# Altium footprint library Project.PcbLib: 3 footprints
Each footprint in its own frame and in the unit in brackets; x right, y up, seen from the top. Pads: shape width x height; smd on the part's side, far side on the other; paste and mask are expansions set on the pad; w line width, h text height; cw(c..) or ccw(c..) is an arc to the next point about the centre after c.
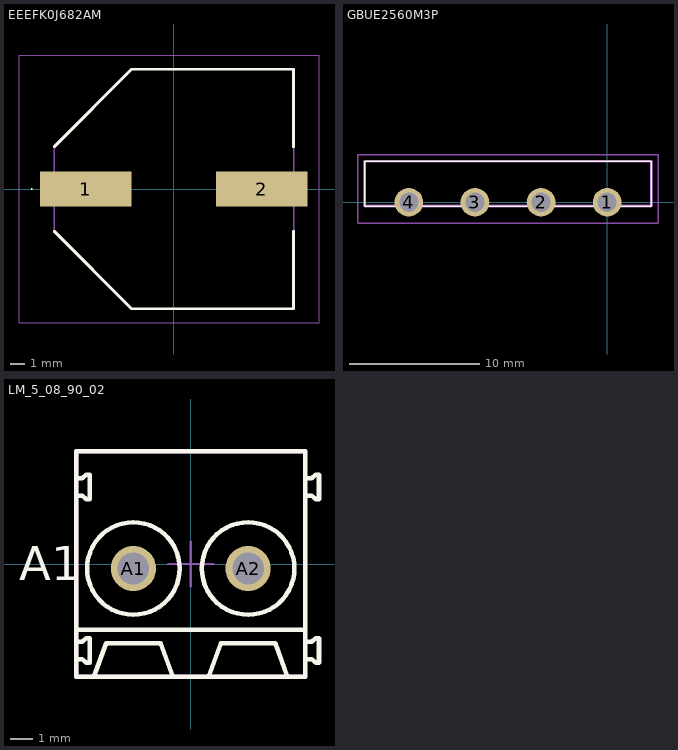
[diagram p0: the footprints below, top view; thin cyan lines are the x and y axes]

## EEEFK0J682AM [mm]
pads (2):
  rect 6.5x2.5 smd: 1(-6.25,0) 2(6.25,0)
Top Overlay:
  lines w0.05: -10.125,0 cw(c-10.1,0) -10.075,0 cw(c-10.1,0) -10.125,0
  lines w0.2: -8.5,-3 -3,-8.5 8.5,-8.5 8.5,-3 ; -8.5,3 -3,8.5 8.5,8.5 8.5,3
Mechanical 13:
  lines w0.1: -8.5,3 -3,8.5 ; -8.5,3 -8.5,-3 -3,-8.5 8.5,-8.5 8.5,8.5 -3,8.5 ; -8.5,3 -3,8.5
Mechanical 15:
  lines w0.05: -11,-9.5 -11,9.5 10.3,9.5 10.3,-9.5 -11,-9.5
3D body "EEE-TK1H471AM.stp": height 0, standoff 0, extent 0,0 0,0
3D body "exv107m050a9paa.stp": height 10.21, standoff -0.3, extent -5.338,-5.461 6.862,5.039

## GBUE2560M3P [mm]
pads (4):
  round 2.205 hole 1.47: 1(0,0) 2(-5.08,0) 3(-10.16,0) 4(-15.24,0)
Top Overlay:
  lines w0.1: -18.645,-0.292 3.405,-0.292 3.405,3.138 -18.645,3.138 -18.645,-0.292
Mechanical 13:
  lines w0.2: -18.645,-0.292 3.405,-0.292 3.405,3.138 -18.645,3.138 -18.645,-0.292
Mechanical 15:
  lines w0.1: -19.145,-1.603 3.905,-1.603 3.905,3.638 -19.145,3.638 -19.145,-1.603
3D body "GBUE2560-M3_P.stp": height 18.65, standoff -5, extent -18.645,-0.634 3.405,3.138

## LM_5_08_90_02 [mm] "OMNIMATE Signal - Serie LM  LM 5.08/02/90 3.5"
height 13.8
pads (2):
  round 2 hole 1.4: A1(-2.54,-0.2) A2(2.54,-0.2)
Top Overlay:
  circle w0.2: c-2.54,-0.2 r2.05
  circle w0.2: c2.54,-0.2 r2.05
  lines w0.2: -5.08,-4.21 -4.8,-4.21 -4.63,-4.38 -4.48,-4.38 -4.48,-3.28 -4.63,-3.28 -4.8,-3.45 -5.08,-3.45 ; -5.08,-2.919 5.08,-2.919 ; -5.08,3.03 -4.8,3.03 -4.63,2.86 -4.48,2.86 -4.48,3.96 -4.63,3.96 -4.8,3.79 -5.08,3.79 ; 5.08,-5 -5.08,-5 -5.08,5 5.08,5 ; 5.08,-5 5.08,5 ; 5.08,-5 5.08,-4.21 5.36,-4.21 5.53,-4.38 5.68,-4.38 5.68,-3.28 5.53,-3.28 5.36,-3.45 5.08,-3.45 5.08,3.03 5.36,3.03 5.53,2.86 5.68,2.86 5.68,3.96 5.53,3.96 5.36,3.79 5.08,3.79 5.08,5 ; -4.29,-5 -3.744,-3.5 -1.336,-3.5 -0.79,-5 -4.29,-5 ; 0.79,-5 4.29,-5 3.744,-3.5 1.336,-3.5 0.79,-5
  text "A1" at -7.604,-0.73 h1.5
Mechanical 15:
  lines w0.1: -1,0 1,0 ; 0,-1 0,1
  lines w0.2: 5.08,-5 -5.08,-5 -5.08,5 5.08,5
3D body "LM_5.08_2_90_3.5_OR_1716080000.stp": height 13.81, standoff -3.49, extent -5.08,-5 5.68,5